# Altium footprint library Diode-Bridge.PcbLib: 57 footprints (part 2 of 4)
Each footprint in its own frame and in the unit in brackets; x right, y up, seen from the top. Pads: shape width x height; smd on the part's side, far side on the other; paste and mask are expansions set on the pad; w line width, h text height; cw(c..) or ccw(c..) is an arc to the next point about the centre after c.
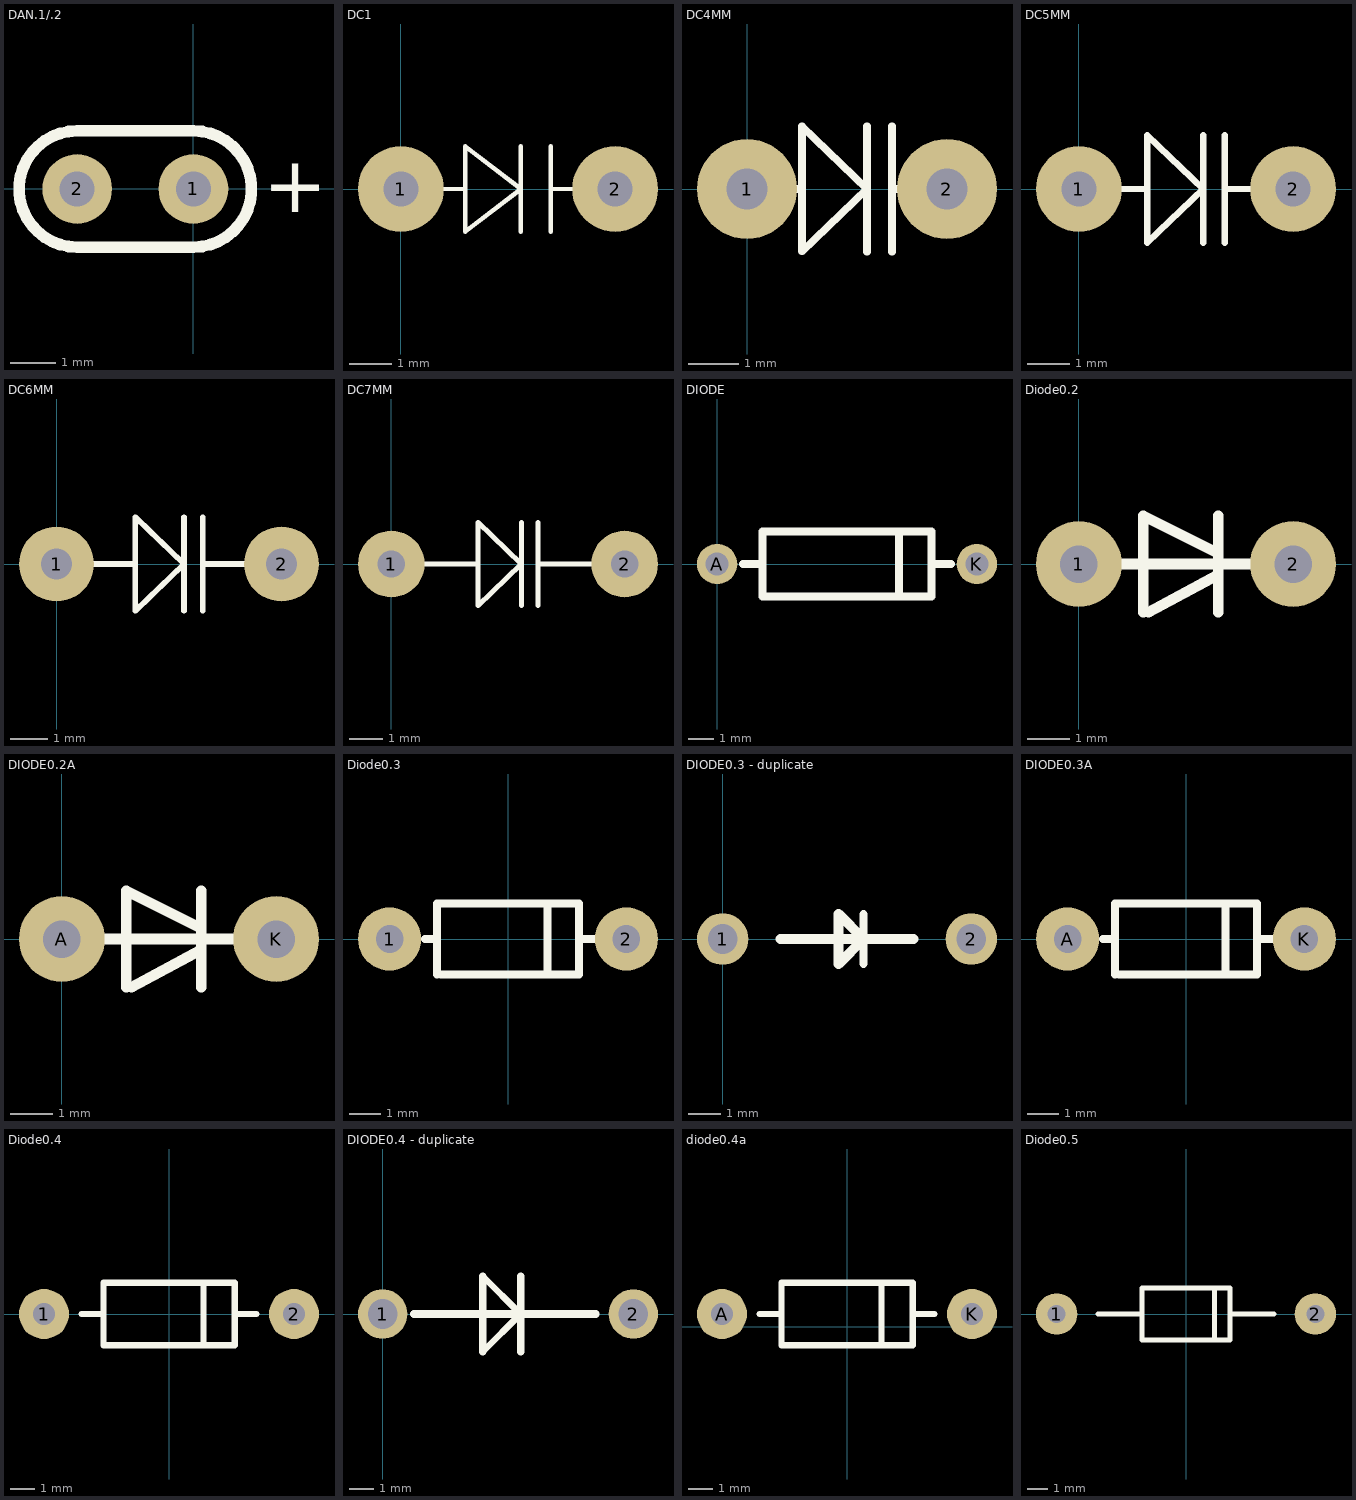
[diagram p1: the footprints below, top view; thin cyan lines are the x and y axes]

## DAN.1/.2 [mil]
pads (2):
  round 60 hole 30: 1(0,0) 2(-100,0)
Top Overlay:
  lines w10: -100,-50 cw(c-100,0) -100,50 0,50 cw(c0,0) 0,-50 -100,-50
  text "+" at 60,-20 h48

## DC1 [mm]
pads (2):
  round 2 hole 0.82: 1(0,0) 2(5,0)
Top Overlay:
  lines w0.1: 0,0 1.5,0 ; 2.8,-1 2.8,1 ; 3.5,-1 3.5,1 ; 3.5,0 5,0 ; 1.5,-1 2.8,0 1.5,1 1.5,-1

## DC4MM [mm]
pads (2):
  round 2 hole 0.82: 1(0,0) 2(4,0)
Top Overlay:
  lines w0.15: 0,0 1.1,0 ; 2.4,-1.25 2.4,1.25 ; 2.9,-1.25 2.9,1.25 ; 2.9,0 4,0 ; 1.1,-1.25 2.4,0 1.1,1.25 1.1,-1.25

## DC5MM [mm]
pads (2):
  round 2 hole 0.82: 1(0,0) 2(5,0)
Top Overlay:
  lines w0.15: 0,0 1.6,0 ; 2.9,-1.25 2.9,1.25 ; 3.4,-1.25 3.4,1.25 ; 3.4,0 5,0 ; 1.6,-1.25 2.9,0 1.6,1.25 1.6,-1.25

## DC6MM [mm]
pads (2):
  round 2 hole 0.82: 1(0,0) 2(6,0)
Top Overlay:
  lines w0.15: 0,0 2.1,0 ; 3.4,-1.25 3.4,1.25 ; 3.9,-1.25 3.9,1.25 ; 3.9,0 6,0 ; 2.1,-1.25 2.1,1.25 3.4,0 2.1,-1.25

## DC7MM [mm]
pads (2):
  round 2 hole 0.82: 1(0,0) 2(7,0)
Top Overlay:
  lines w0.15: 0,0 2.6,0 ; 3.9,-1.25 3.9,1.25 ; 4.4,-1.25 4.4,1.25 ; 4.4,0 7,0 ; 2.6,-1.25 2.6,1.25 3.9,0 2.6,-1.25

## DIODE [mil]
pads (2):
  round 62 hole 35.43: A(0,0) K(400,0)
Top Overlay:
  lines w12: 40,0 70,0 ; 280,-50 280,50 ; 330,0 360,0 ; 70,-50 330,-50 330,50 70,50 70,-50

## Diode0.2 [mil]
pads (2):
  round 80 hole 35: 1(0,0) 2(200,0)
Top Overlay:
  lines w10: 35,0 160,0 ; 60,-45 60,45 130,10 ; 65,-45 130,-10 ; 130,-45 130,45

## DIODE0.2A [mil]
pads (2):
  round 80 hole 35: A(0,0) K(200,0)
Top Overlay:
  lines w10: 35,0 160,0 ; 60,-45 60,45 130,10 ; 65,-45 130,-10 ; 130,-45 130,45

## Diode0.3 [mil]
pads (2):
  round 80 hole 35: 1(-150,0) 2(150,0)
Top Overlay:
  lines w10: -105,0 -90,0 ; -90,-45 -90,45 90,45 90,-45 -85,-45 ; 50,-45 50,45 ; 90,0 110,0

## DIODE0.3 - duplicate [mil]
pads (2):
  round 62 hole 36: 1(0,0) 2(300,0)
Top Overlay:
  lines w10: 170,-30 170,30
  lines w12: 70,0 230,0 ; 140,-30 140,30 170,0 140,-30

## DIODE0.3A [mil]
pads (2):
  round 80 hole 35: A(-150,0) K(150,0)
Top Overlay:
  lines w10: -105,0 -90,0 ; -90,-45 -90,45 90,45 90,-45 -85,-45 ; 50,-45 50,45 ; 90,0 110,0

## Diode0.4 [mil]
pads (2):
  round 80 hole 35: 1(-200,0) 2(200,0)
Top Overlay:
  lines w10: -140,0 -105,0 ; 55,-50 55,50 ; 105,0 140,0 ; -105,-50 105,-50 105,50 -105,50 -105,-10 -105,-50

## DIODE0.4 - duplicate [mm]
pads (2):
  round 2 hole 1.2: 1(0,0) 2(10.16,0)
Top Overlay:
  lines w0.254: 4.064,-1.524 5.588,0 4.064,1.524
  lines w0.305: 1.27,0 8.636,0 ; 4.064,-1.524 4.064,1.524 ; 5.588,-1.524 5.588,1.524

## diode0.4a [mil]
pads (2):
  round 80 hole 35: A(-200,20) K(200,20)
Top Overlay:
  lines w10: -140,20 -105,20 ; 55,-30 55,70 ; 105,20 140,20 ; -105,-30 105,-30 105,70 -105,70 -105,10 -105,-30

## Diode0.5 [mil]
pads (2):
  round 80 hole 35: 1(-250,0) 2(250,0)
Top Overlay:
  lines w10: -170,0 -85,0 ; 55,-50 55,50 ; 85,0 170,0 ; -85,0 -85,50 85,50 85,-50 -85,-50 -85,0